# Altium integrated library LM317AT_NOPB.IntLib: 1 symbol
Pins are listed as number, name and electrical type; pins without a type are passive.

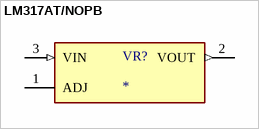
[diagram p0: symbol LM317AT/NOPB]

## LM317AT/NOPB
designator VR?
1.5-A, 40-V, adjustable linear voltage regulator with high-accuracy 3-TO-220 -40 to 125; MF: Texas Instruments; MP: LM317AT; SnapEDA_Link: https://www.snapeda.com/parts/LM317AT/Texas+Instruments/view-part/?ref=snap; Package: TO-220-3 Texas Instruments; Value: *; Check_prices: https://www.snapeda.com/parts/LM317AT/Texas+Instruments/view-part/?ref=eda
footprint TO254P1054X470X1955-3
pins: 1 ADJ, 2 VOUT (out), 3 VIN (in)